# Altium footprint library PcbLib1.PcbLib: 9 footprints
Each footprint in its own frame and in the unit in brackets; x right, y up, seen from the top. Pads: shape width x height; smd on the part's side, far side on the other; paste and mask are expansions set on the pad; w line width, h text height; cw(c..) or ccw(c..) is an arc to the next point about the centre after c.
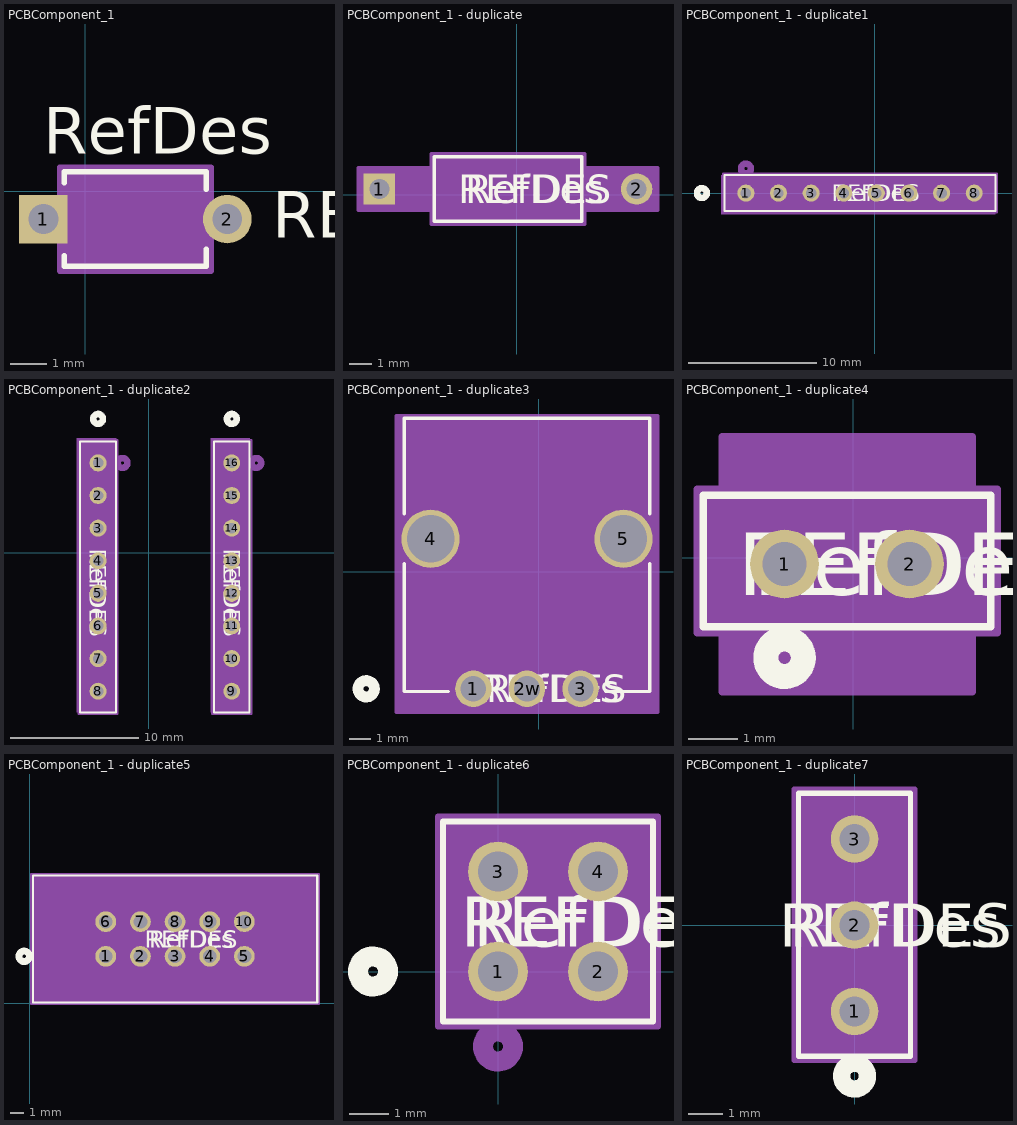
[diagram p0: the footprints below, top view; thin cyan lines are the x and y axes]

## PCBComponent_1 [mil]
pads (2):
  rect 52x52 / inner round 60 / far side rect 52x52 hole 32 paste-99999 mask+0: 1(-45,-30)
  round 52 / inner round 60 / far side round 52 hole 32 paste-99999 mask+0: 2(151.85,-30)
Top Overlay:
  lines w6: -22.57,-69.1 -22.57,-80.5 129.43,-80.5 129.43,-62.03 ; -22.57,9.1 -22.57,20.5 129.43,20.5 129.43,2.03
  text "RefDes" at -45,40 h50
  text "REFDES" at 200,-50 h50
Mechanical 13:
  lines w1: -17.57,-75.5 -17.57,15.5 124.42,15.5 124.42,-75.5 -17.57,-75.5
  text "RefDes2" at -25,-140 h50
Mechanical 15:
  region: 134.43,-85.5 -27.57,-85.5 -27.57,25.5 134.43,25.5
  lines w6: -27.57,-85.5 134.43,-85.5 134.43,25.5 -27.57,25.5 -27.57,-85.5
3D body "K104K10X7RF5UH5_VIS.step": height 142.01, standoff -202.01, extent -70.41,-76.02 170.41,15

## PCBComponent_1 - duplicate [mil]
pads (2):
  rect 55x55 / inner round 60 / far side rect 55x55 hole 35 paste-99999 mask+0: 1(-240,10)
  round 55 / inner round 60 / far side round 55 hole 35 paste-99999 mask+0: 2(210,10)
Top Overlay:
  lines w6: -144,-46.5 -144,66.5 114,66.5 114,-46.5 -144,-46.5
  text "REFDES" at -102.5,-15 h50
  text "RefDes" at -90,-15 h50
Mechanical 13:
  lines w1: -240,10 -139,10 ; 109,10 210,10 ; -139,-41.5 -139,61.5 109,61.5 109,-41.5 -139,-41.5
  text "RefDes2" at -102.5,-15 h50
Mechanical 15:
  region: -149,-27.5 -277.5,-27.5 -277.5,47.5 -149,47.5 -149,71.5 119,71.5 119,47.5 247.5,47.5 247.5,-27.5 119,-27.5 119,-51.5 -149,-51.5
  lines w6: -277.5,-27.5 -149,-27.5 -149,-51.5 119,-51.5 119,-27.5 247.5,-27.5 247.5,47.5 119,47.5 119,71.5 -149,71.5 -149,47.5 -277.5,47.5 -277.5,-27.5
3D body "STA_CF14_STP.step": height 103, standoff -110, extent -252.48,-41.12 222.48,61.12

## PCBComponent_1 - duplicate1 [mil]
pads (8):
  round 52 / inner round 60 / far side round 52 hole 32 paste-99999 mask+0: 1(-395,0) 2(-295,0) 3(-195,0) 4(-95,0) 5(5,0) 6(105,0) 7(205,0) 8(305,0)
Top Overlay:
  circle w20: c-530,0 r15
  lines w6: -460,-55 370,-55 370,55 -460,55 -460,-55
  text "RefDes" at -120,-25 h50
  text "REFDES" at -132.5,-25 h50
Bottom Overlay:
  circle w20: c-530,0 r15
Mechanical 13:
  circle w20: c-395,75 r15
  lines w1: -455,-50 365,-50 365,50 -455,50 -455,-50
  text "RefDes2" at -132.5,-25 h50
Mechanical 15:
  region: 370,55 -470,55 -470,-65 370,-65
  lines w6: -465,-60 -465,60 375,60 375,-60 -465,-60

## PCBComponent_1 - duplicate2 [mil]
pads (16):
  round 52 / inner round 60 / far side round 52 hole 32 paste-99999 mask+0: 1(-155,275) 2(-155,175) 3(-155,75) 4(-155,-25) 5(-155,-125) 6(-155,-225) 7(-155,-325) 8(-155,-425) 9(255,-425) 10(255,-325) 11(255,-225) 12(255,-125) 13(255,-25) 14(255,75) 15(255,175) 16(255,275)
Top Overlay:
  circle w20: c255,410 r15
  circle w20: c-155,410 r15
  lines w6: -210,-490 -100,-490 -100,340 -210,340 -210,-490 ; 200,-490 310,-490 310,340 200,340 200,-490
  text "REFDES" at 230,12.5 h50
  text "RefDes" at 230,0 h50
  text "REFDES" at -180,12.5 h50
  text "RefDes" at -180,0 h50
Bottom Overlay:
  circle w20: c255,410 r15
  circle w20: c-155,410 r15
Mechanical 13:
  circle w20: c330,275 r15
  circle w20: c-80,275 r15
  lines w1: -205,-485 -105,-485 -105,335 -205,335 -205,-485 ; 205,-485 305,-485 305,335 205,335 205,-485
  text "RefDes2" at 230,12.5 h50
  text "RefDes2" at -180,12.5 h50
Mechanical 15:
  region: 310,-490 310,350 190,350 190,-490
  region: -100,-490 -100,350 -220,350 -220,-490
  lines w6: -215,-495 -95,-495 -95,345 -215,345 -215,-495 ; 195,-495 315,-495 315,345 195,345 195,-495

## PCBComponent_1 - duplicate3 [mil]
pads (5):
  round 67 / inner round 60 / far side round 67 hole 47 paste-99999 mask+0: 1(-120,-215) 2w(-21.57,-215) 3(76.85,-215)
  round 107 / inner round 60 / far side round 107 hole 87 unplated: 4(-198.74,60.59) 5(155.59,60.59)
Top Overlay:
  circle w20: c-317.07,-215 r15
  lines w6: -247.07,14.77 -247.07,-219.87 -166.34,-219.87 ; -247.07,106.41 -247.07,282.13 203.93,282.13 203.93,106.41 ; 123.19,-219.87 203.93,-219.87 203.93,14.77
  text "RefDes" at -96.57,-240 h50
  text "REFDES" at -109.07,-240 h50
Bottom Overlay:
  circle w20: c-317.07,-215 r15
Mechanical 13:
  circle w20: c-120,-140 r15
  lines w1: -242.07,-214.87 198.93,-214.87 198.93,277.13 -242.07,277.13 -242.07,-214.87
  text "RefDes2" at -109.07,-240 h50
Mechanical 15:
  region: 219.09,287.13 -262.24,287.13 -262.24,-258.5 219.09,-258.5
  lines w6: -262.24,-258.5 -262.24,287.13 219.09,287.13 219.09,-258.5 -262.24,-258.5

## PCBComponent_1 - duplicate4 [mil]
pads (2):
  round 55 / inner round 60 / far side round 55 hole 35 paste-99999 mask+0: 1(-55,-5) 2(45,-5)
Top Overlay:
  circle w20: c-55,-80 r15
  lines w6: -120,-55 110,-55 110,50 -120,50 -120,-55
  text "RefDes" at -80,-30 h50
  text "REFDES" at -92.5,-30 h50
Bottom Overlay:
  circle w20: c-55,-80 r15
Mechanical 13:
  circle w0: c-55,-5 r10
  lines w1: -115,-50 105,-50 105,45 -115,45 -115,-50
  text "RefDes2" at -92.5,-30 h50
Mechanical 15:
  region: 115,55 95,55 95,97 -105,97 -105,55 -125,55 -125,-60 -105,-60 -105,-107 95,-107 95,-60 115,-60
  lines w6: -125,-60 -125,55 -105,55 -105,97 95,97 95,55 115,55 115,-60 95,-60 95,-107 -105,-107 -105,-60 -125,-60
3D body "CON2_1X2_TU_TSW.step": height 500, standoff -200, extent -105,-55 95,45

## PCBComponent_1 - duplicate5 [mil]
pads (10):
  round 60 hole 40 paste-99999 mask+0: 1(220,135) 2(320,135) 3(420,135) 4(520,135) 5(620,135) 6(220,235) 7(320,235) 8(420,235) 9(520,235) 10(620,235)
Top Overlay:
  circle w20: c-15.5,135 r15
  lines w6: 9.5,2 9.5,368 830.5,368 830.5,2 9.5,2
  text "REFDES" at 332.5,160 h50
  text "RefDes" at 345,160 h50
Bottom Overlay:
  circle w20: c-15.5,135 r15
Mechanical 13:
  circle w20: c220,60 r15
  lines w1: 14.5,7 14.5,363 825.5,363 825.5,7 14.5,7
  text "RefDes2" at 332.5,160 h50
Mechanical 15:
  region: 835.5,373 4.5,373 4.5,-3 835.5,-3
  lines w6: 4.5,-3 835.5,-3 835.5,373 4.5,373 4.5,-3

## PCBComponent_1 - duplicate6 [mil]
pads (4):
  round 60 hole 40 paste-99999 mask+0: 1(0,0) 2(100,0) 3(0,100) 4(100,100)
Top Overlay:
  circle w20: c-125,0 r15
  lines w6: -55,-50 155,-50 155,150 -55,150 -55,-50
  text "RefDes" at -25,25 h50
  text "REFDES" at -37.5,25 h50
Bottom Overlay:
  circle w20: c-125,0 r15
Mechanical 13:
  circle w20: c0,-75 r15
  lines w1: -50,-45 150,-45 150,145 -50,145 -50,-45
  text "RefDes2" at -37.5,25 h50
Mechanical 15:
  region: 160,155 -60,155 -60,-55 160,-55
  lines w6: -60,-55 -60,155 160,155 160,-55 -60,-55

## PCBComponent_1 - duplicate7 [mil]
pads (3):
  round 55 / inner round 60 / far side round 55 hole 35 paste-99999 mask+0: 1(0,-100) 2(0,0) 3(0,100)
Top Overlay:
  circle w20: c0,-175 r15
  lines w6: -65,-152 65,-152 65,153 -65,153 -65,-152
  text "RefDes" at -75,-25 h50
  text "REFDES" at -87.5,-25 h50
Bottom Overlay:
  circle w20: c0,-175 r15
Mechanical 13:
  circle w0: c0,-100 r10
  lines w1: -60,-147 60,-147 60,148 -60,148 -60,-147
  text "RefDes2" at -87.5,-25 h50
Mechanical 15:
  region: 70,158 37.5,158 -37.5,158 -70,158 -70,-157 -37.5,-157 37.5,-157 70,-157
  lines w6: -70,-157 -70,158 -37.5,158 37.5,158 70,158 70,-157 37.5,-157 -37.5,-157 -70,-157